# Altium footprint library TI-RDH0030A-B0QFN_CUSTOM.PcbLib: 1 footprints
Each footprint in its own frame and in the unit in brackets; x right, y up, seen from the top. Pads: shape width x height; smd on the part's side, far side on the other; paste and mask are expansions set on the pad; w line width, h text height; cw(c..) or ccw(c..) is an arc to the next point about the centre after c.
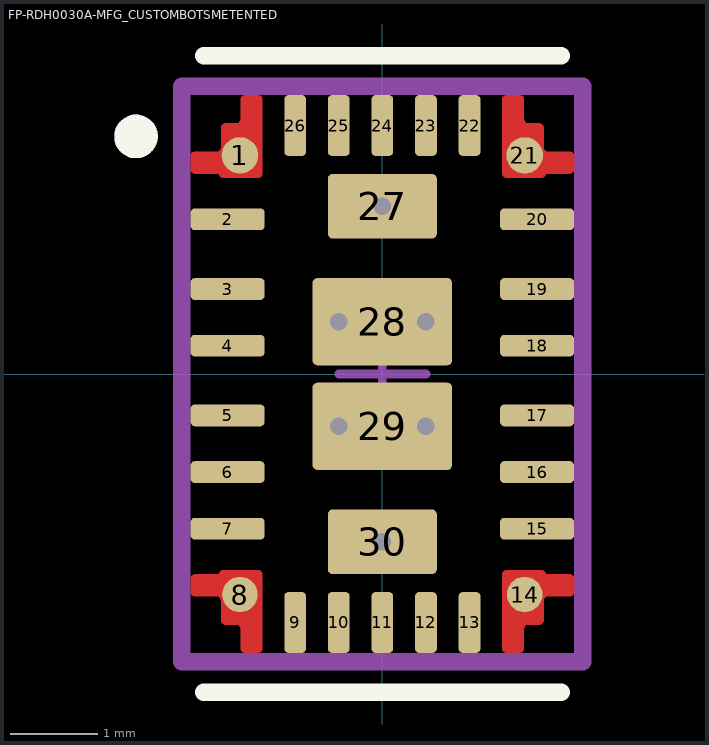
[diagram p0: the footprint, top view; thin cyan lines are the x and y axes]

## FP-RDH0030A-MFG_CUSTOMBOTSMETENTED [mm] "30-pin B0QFN, 4.0 x 6.0 mm² area, 1.9 mm max height"
height 1.9
pads (30):
  round 0.419 smd paste+0 mask+0: 1(-1.633,2.508) 21(1.633,2.508)
  rrect40% 0.85x0.25 smd paste+0 mask+0: 2(-1.775,1.775) 3(-1.775,0.975) 4(-1.775,0.325) 5(-1.775,-0.475) 6(-1.775,-1.125) 7(-1.775,-1.775) 15(1.775,-1.775) 16(1.775,-1.125) 17(1.775,-0.475) 18(1.775,0.325) 19(1.775,0.975) 20(1.775,1.775)
  round 0.407 smd paste+0 mask+0: 8(-1.633,-2.53) 14(1.633,-2.53)
  rrect40% 0.25x0.7 smd paste+0 mask+0: 9(-1,-2.85) 10(-0.5,-2.85) 11(0,-2.85) 12(0.5,-2.85) 13(1,-2.85) 22(1,2.85) 23(0.5,2.85) 24(0,2.85) 25(-0.5,2.85) 26(-1,2.85)
  rrect14% 1.25x0.74 smd paste-1000 mask-1000: 27(0,1.925) 30(0,-1.925)
  rrect10% 1.6x1 smd paste-1000 mask-1000: 28(0,0.6) 29(0,-0.6)
via 0,1.925 diameter 0.5 hole 0.2
via 0,-1.925 diameter 0.5 hole 0.2
via 0.5,-0.6 diameter 0.5 hole 0.2
via -0.5,-0.6 diameter 0.5 hole 0.2
via 0.5,0.6 diameter 0.5 hole 0.2
via -0.5,0.6 diameter 0.5 hole 0.2
Top Layer:
  region: -2.2,2.35 -2.2,2.34 -2.192,2.322 -2.178,2.308 -2.16,2.3 -2.15,2.3 -1.875,2.3 -1.875,2.29 -1.867,2.272 -1.853,2.258 -1.835,2.25 -1.825,2.25 -1.425,2.25 -1.415,2.25 -1.397,2.258 -1.383,2.272 -1.375,2.29 -1.375,2.3 -1.375,3.15 -1.375,3.16 -1.383,3.178 -1.397,3.192 -1.415,3.2 -1.425,3.2 -1.575,3.2 -1.585,3.2 -1.603,3.192 -1.617,3.178 -1.625,3.16 -1.625,3.15 -1.625,2.925 -1.626,2.915 -1.633,2.897 -1.647,2.883 -1.665,2.876 -1.675,2.875 -1.8,2.875 -1.81,2.875 -1.828,2.867 -1.842,2.853 -1.85,2.835 -1.85,2.825 -1.85,2.6 -1.851,2.59 -1.858,2.572 -1.872,2.558 -1.89,2.551 -1.9,2.55 -2.15,2.55 -2.16,2.55 -2.178,2.542 -2.192,2.528 -2.2,2.51 -2.2,2.5
  region: -2.2,-2.35 -2.2,-2.34 -2.192,-2.322 -2.178,-2.308 -2.16,-2.3 -2.15,-2.3 -1.875,-2.3 -1.875,-2.29 -1.867,-2.272 -1.853,-2.258 -1.835,-2.25 -1.825,-2.25 -1.425,-2.25 -1.415,-2.25 -1.397,-2.258 -1.383,-2.272 -1.375,-2.29 -1.375,-2.3 -1.375,-3.15 -1.375,-3.16 -1.383,-3.178 -1.397,-3.192 -1.415,-3.2 -1.425,-3.2 -1.575,-3.2 -1.585,-3.2 -1.603,-3.192 -1.617,-3.178 -1.625,-3.16 -1.625,-3.15 -1.625,-2.925 -1.626,-2.915 -1.633,-2.897 -1.647,-2.883 -1.665,-2.876 -1.675,-2.875 -1.8,-2.875 -1.81,-2.875 -1.828,-2.867 -1.842,-2.853 -1.85,-2.835 -1.85,-2.825 -1.85,-2.6 -1.851,-2.59 -1.858,-2.572 -1.872,-2.558 -1.89,-2.551 -1.9,-2.55 -2.15,-2.55 -2.16,-2.55 -2.178,-2.542 -2.192,-2.528 -2.2,-2.51 -2.2,-2.5
  region: 2.2,-2.35 2.2,-2.34 2.192,-2.322 2.178,-2.308 2.16,-2.3 2.15,-2.3 1.875,-2.3 1.875,-2.29 1.867,-2.272 1.853,-2.258 1.835,-2.25 1.825,-2.25 1.425,-2.25 1.415,-2.25 1.397,-2.258 1.383,-2.272 1.375,-2.29 1.375,-2.3 1.375,-3.15 1.375,-3.16 1.383,-3.178 1.397,-3.192 1.415,-3.2 1.425,-3.2 1.575,-3.2 1.585,-3.2 1.603,-3.192 1.617,-3.178 1.625,-3.16 1.625,-3.15 1.625,-2.925 1.626,-2.915 1.633,-2.897 1.647,-2.883 1.665,-2.876 1.675,-2.875 1.8,-2.875 1.81,-2.875 1.828,-2.867 1.842,-2.853 1.85,-2.835 1.85,-2.825 1.85,-2.6 1.851,-2.59 1.858,-2.572 1.872,-2.558 1.89,-2.551 1.9,-2.55 2.15,-2.55 2.16,-2.55 2.178,-2.542 2.192,-2.528 2.2,-2.51 2.2,-2.5
  region: 2.2,2.35 2.2,2.34 2.192,2.322 2.178,2.308 2.16,2.3 2.15,2.3 1.875,2.3 1.875,2.29 1.867,2.272 1.853,2.258 1.835,2.25 1.825,2.25 1.425,2.25 1.415,2.25 1.397,2.258 1.383,2.272 1.375,2.29 1.375,2.3 1.375,3.15 1.375,3.16 1.383,3.178 1.397,3.192 1.415,3.2 1.425,3.2 1.575,3.2 1.585,3.2 1.603,3.192 1.617,3.178 1.625,3.16 1.625,3.15 1.625,2.925 1.626,2.915 1.633,2.897 1.647,2.883 1.665,2.876 1.675,2.875 1.8,2.875 1.81,2.875 1.828,2.867 1.842,2.853 1.85,2.835 1.85,2.825 1.85,2.6 1.851,2.59 1.858,2.572 1.872,2.558 1.89,2.551 1.9,2.55 2.15,2.55 2.16,2.55 2.178,2.542 2.192,2.528 2.2,2.51 2.2,2.5
Top Overlay:
  circle w0.25: c-2.825,2.725 r0.125
  lines w0.2: -2.05,-3.65 2.05,-3.65 ; -2.05,3.65 2.05,3.65
Top Paste:
  region: -0.685,-1.075 -0.695,-1.075 -0.713,-1.067 -0.727,-1.053 -0.735,-1.035 -0.735,-1.025 -0.735,-0.175 -0.735,-0.165 -0.727,-0.147 -0.713,-0.133 -0.695,-0.125 -0.685,-0.125 0.685,-0.125 0.695,-0.125 0.713,-0.133 0.727,-0.147 0.735,-0.165 0.735,-0.175 0.735,-1.025 0.735,-1.035 0.727,-1.053 0.713,-1.067 0.695,-1.075 0.685,-1.075
  region: 0.685,0.125 -0.685,0.125 -0.695,0.125 -0.713,0.133 -0.727,0.147 -0.735,0.165 -0.735,0.175 -0.735,1.025 -0.735,1.035 -0.727,1.053 -0.713,1.067 -0.695,1.075 -0.685,1.075 0.685,1.075 0.695,1.075 0.713,1.067 0.727,1.053 0.735,1.035 0.735,1.025 0.735,0.175 0.735,0.165 0.727,0.147 0.713,0.133 0.695,0.125
  region: -0.585,2.245 -0.585,2.255 -0.577,2.273 -0.563,2.287 -0.545,2.295 -0.535,2.295 0.535,2.295 0.545,2.295 0.563,2.287 0.577,2.273 0.585,2.255 0.585,2.245 0.585,1.605 0.585,1.595 0.577,1.577 0.563,1.563 0.545,1.555 0.535,1.555 -0.535,1.555 -0.545,1.555 -0.563,1.563 -0.577,1.577 -0.585,1.595 -0.585,1.605
  region: 0.585,-2.245 0.585,-2.255 0.577,-2.273 0.563,-2.287 0.545,-2.295 0.535,-2.295 -0.535,-2.295 -0.545,-2.295 -0.563,-2.287 -0.577,-2.273 -0.585,-2.255 -0.585,-2.245 -0.585,-1.605 -0.585,-1.595 -0.577,-1.577 -0.563,-1.563 -0.545,-1.555 -0.535,-1.555 0.535,-1.555 0.545,-1.555 0.563,-1.563 0.577,-1.577 0.585,-1.595 0.585,-1.605
Top Solder:
  region: 0.575,-1.505 0.595,-1.505 0.632,-1.52 0.66,-1.548 0.675,-1.585 0.675,-1.605 0.675,-2.245 0.675,-2.265 0.66,-2.302 0.632,-2.33 0.595,-2.345 0.575,-2.345 -0.575,-2.345 -0.595,-2.345 -0.632,-2.33 -0.66,-2.302 -0.675,-2.265 -0.675,-2.245 -0.675,-1.605 -0.675,-1.585 -0.66,-1.548 -0.632,-1.52 -0.595,-1.505 -0.575,-1.505
  region: 0.575,2.345 0.595,2.345 0.632,2.33 0.66,2.302 0.675,2.265 0.675,2.245 0.675,1.605 0.675,1.585 0.66,1.548 0.632,1.52 0.595,1.505 0.575,1.505 -0.575,1.505 -0.595,1.505 -0.632,1.52 -0.66,1.548 -0.675,1.585 -0.675,1.605 -0.675,2.245 -0.675,2.265 -0.66,2.302 -0.632,2.33 -0.595,2.345 -0.575,2.345
  region: 0.75,0.05 -0.75,0.05 -0.77,0.05 -0.807,0.065 -0.835,0.093 -0.85,0.13 -0.85,0.15 -0.85,1.05 -0.85,1.07 -0.835,1.107 -0.807,1.135 -0.77,1.15 -0.75,1.15 0.75,1.15 0.77,1.15 0.807,1.135 0.835,1.107 0.85,1.07 0.85,1.05 0.85,0.15 0.85,0.13 0.835,0.093 0.807,0.065 0.77,0.05
  region: 0.85,-1.05 0.85,-1.07 0.835,-1.107 0.807,-1.135 0.77,-1.15 0.75,-1.15 -0.75,-1.15 -0.77,-1.15 -0.807,-1.135 -0.835,-1.107 -0.85,-1.07 -0.85,-1.05 -0.85,-0.15 -0.85,-0.13 -0.835,-0.093 -0.807,-0.065 -0.77,-0.05 -0.75,-0.05 0.75,-0.05 0.77,-0.05 0.807,-0.065 0.835,-0.093 0.85,-0.13 0.85,-0.15
Top Assembly:
  circle w0.25: c-2.825,2.725 r0.125
  lines w0.2: -2.3,-3.3 2.3,-3.3 2.3,3.3 -2.3,3.3 -2.3,-3.3
Top Courtyard:
  lines w0.2: -2.3,-3.3 2.3,-3.3 2.3,3.3 -2.3,3.3 -2.3,-3.3
Top Designator:
  text ".Designator" at 0,0.188 h1
Top Component Center:
  lines w0.1: -0.5,0 0.5,0 ; 0,-0.5 0,0.5
3D body "IC_Texas_Instruments_TPSM63602RDHR_eec.STEP": height 1.9, standoff 0, extent -2,-3 2,3